# Altium schematic symbol library 4 Layers Stackup.Schlib: 1 symbol
Pins are listed as number, name and electrical type; pins without a type are passive.

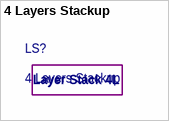
[diagram p0: symbol 4 Layers Stackup]

## 4 Layers Stackup
designator LS?
text: Layer Stack 4L